# Altium footprint library C_SMD_size_C.PcbLib: 1 footprints
Each footprint in its own frame and in the unit in brackets; x right, y up, seen from the top. Pads: shape width x height; smd on the part's side, far side on the other; paste and mask are expansions set on the pad; w line width, h text height; cw(c..) or ccw(c..) is an arc to the next point about the centre after c.
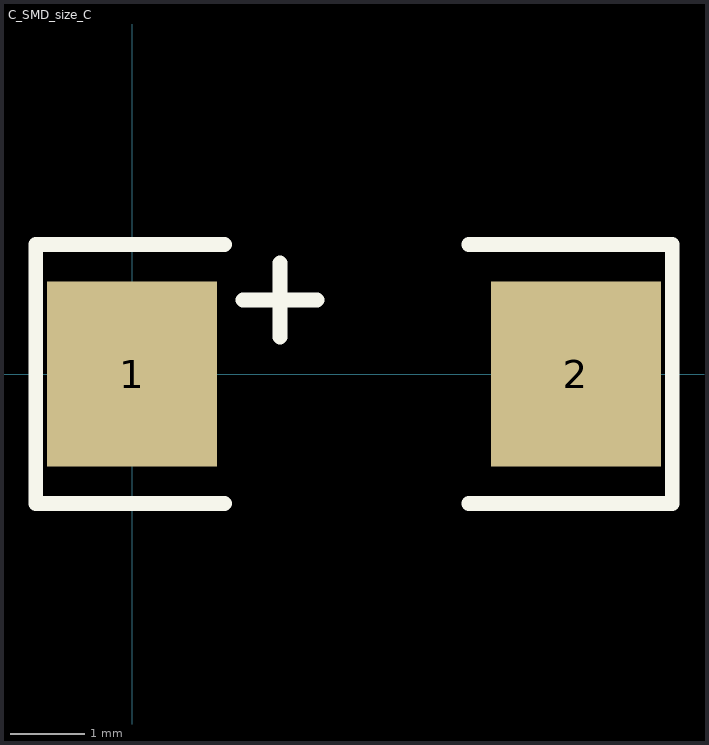
[diagram p0: the footprint, top view; thin cyan lines are the x and y axes]

## C_SMD_size_C [mm]
pads (2):
  rect 2.3x2.5 smd: 1(0,0) 2(6,0)
Top Overlay:
  lines w0.2: 1.25,-1.75 -1.3,-1.75 -1.3,1.75 1.25,1.75 ; 1.5,1 2.5,1 ; 2,0.5 2,1.5 ; 4.55,-1.75 7.3,-1.75 7.3,1.75 4.55,1.75
3D body: height 2.54, standoff 0, extent 0,-1.6 6,1.6